# Altium footprint library EEH-AZF1H101.PcbLib: 1 footprints
Each footprint in its own frame and in the unit in brackets; x right, y up, seen from the top. Pads: shape width x height; smd on the part's side, far side on the other; paste and mask are expansions set on the pad; w line width, h text height; cw(c..) or ccw(c..) is an arc to the next point about the centre after c.
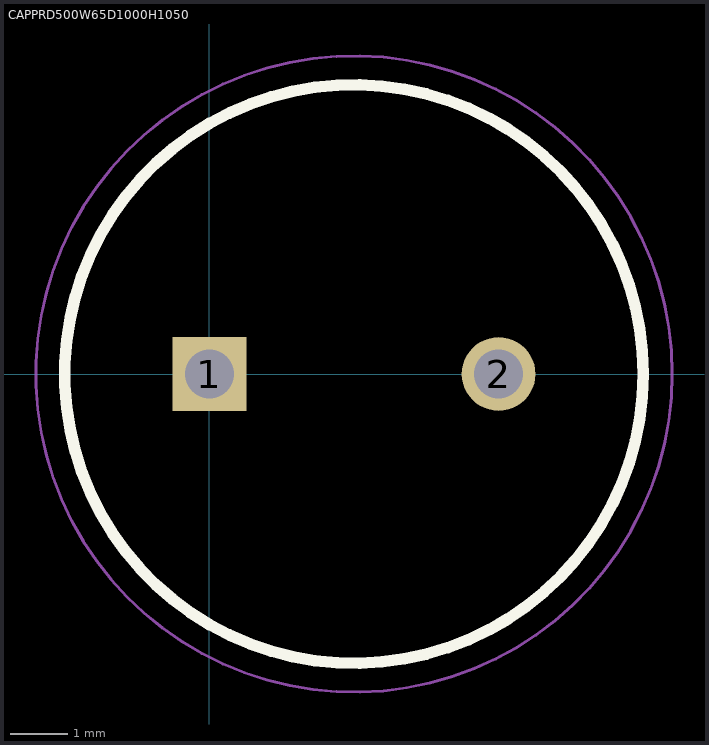
[diagram p0: the footprint, top view; thin cyan lines are the x and y axes]

## CAPPRD500W65D1000H1050 [mm]
pads (2):
  rect 1.275x1.275 hole 0.85: 1(0,0)
  round 1.275 hole 0.85: 2(5,0)
Top Overlay:
  circle w0.2: c2.5,0 r5
Mechanical 13:
  circle w0.1: c2.5,0 r5
Mechanical 15:
  circle w0.05: c2.5,0 r5.5
3D body "EEH-AZF1H101.stp": height 10.5, standoff -10, extent -2.75,-5.247 7.75,5.247